# Altium schematic symbol library Transmitter.SchLib: 7 symbols
Pins are listed as number, name and electrical type; pins without a type are passive.

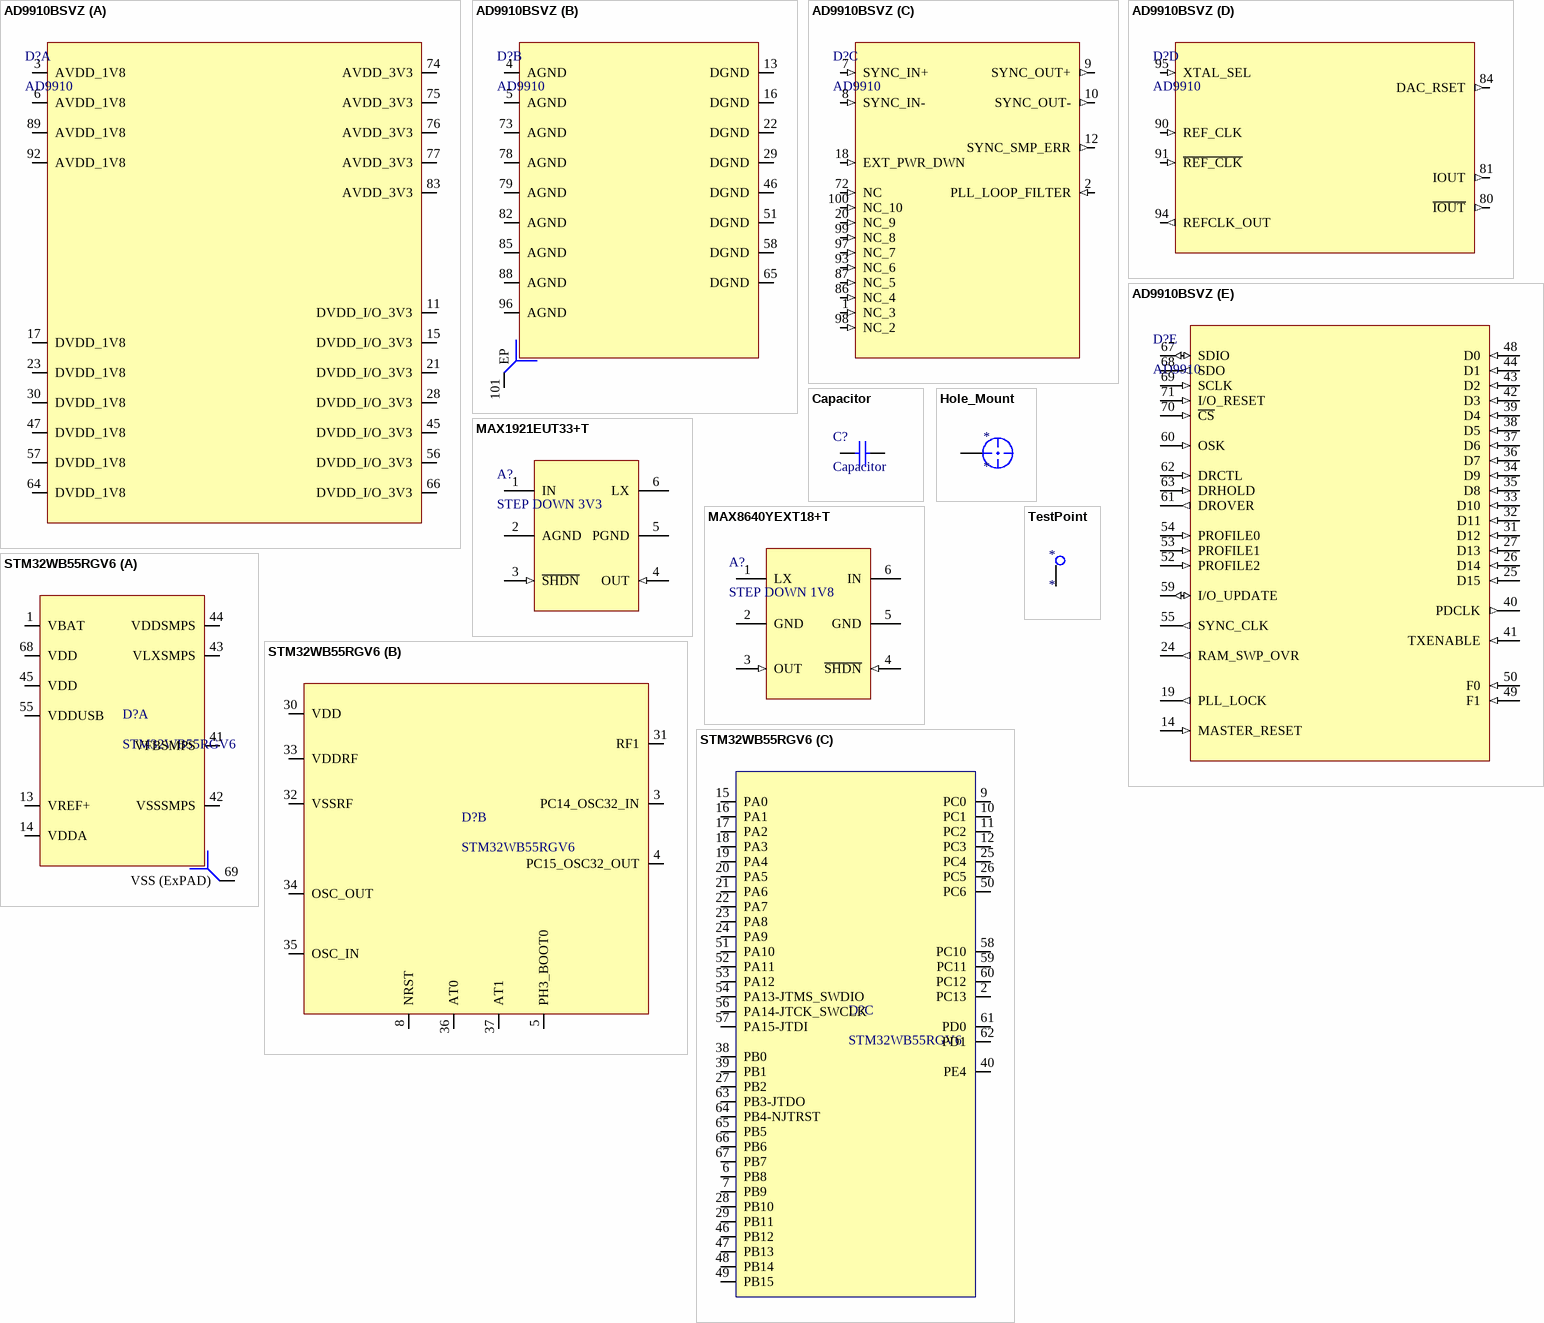
[diagram p0: symbols AD9910BSVZ to TestPoint]

## AD9910BSVZ
designator D?, comment AD9910
ANALOG DEVICES - AD9910BSVZ - Direct Digital Synthesizer, 1 GSPS. 14 Bit, 3.3 V,
footprint TSQFP50P1600X1600X105_HS-101N (TSQFP, 100-Leads, Body 14.00x14.00mm, Pitch 0.50mm, Thermal Pad 5.00x5.00mm, IPC Medium Density)
part A pins: 3 AVDD_1V8 (power), 6 AVDD_1V8 (power), 11 DVDD_I/O_3V3 (power), 15 DVDD_I/O_3V3 (power), 17 DVDD_1V8 (power), 21 DVDD_I/O_3V3 (power), 23 DVDD_1V8 (power), 28 DVDD_I/O_3V3 (power), 30 DVDD_1V8 (power), 45 DVDD_I/O_3V3 (power), 47 DVDD_1V8 (power), 56 DVDD_I/O_3V3 (power), 57 DVDD_1V8 (power), 64 DVDD_1V8 (power), 66 DVDD_I/O_3V3 (power), 74 AVDD_3V3 (power), 75 AVDD_3V3 (power), 76 AVDD_3V3 (power), 77 AVDD_3V3 (power), 83 AVDD_3V3 (power), 89 AVDD_1V8 (power), 92 AVDD_1V8 (power)
part B pins: 4 AGND (power), 5 AGND (power), 13 DGND (power), 16 DGND (power), 22 DGND (power), 29 DGND (power), 46 DGND (power), 51 DGND (power), 58 DGND (power), 65 DGND (power), 73 AGND (power), 78 AGND (power), 79 AGND (power), 82 AGND (power), 85 AGND (power), 88 AGND (power), 96 AGND (power), 101 EP (power)
part C pins: 1 NC_3 (in), 2 PLL_LOOP_FILTER (in), 7 SYNC_IN+ (in), 8 SYNC_IN- (in), 9 SYNC_OUT+ (out), 10 SYNC_OUT- (out), 12 SYNC_SMP_ERR (out), 18 EXT_PWR_DWN (in), 20 NC_9 (in), 72 NC (in), 86 NC_4 (in), 87 NC_5 (in), 93 NC_6 (in), 97 NC_7 (in), 98 NC_2 (in), 99 NC_8 (in), 100 NC_10 (in)
part D pins: 80 ~{IOUT} (out), 81 IOUT (out), 84 DAC_RSET (out), 90 REF_CLK (in), 91 ~{REF_CLK} (in), 94 REFCLK_OUT (out), 95 XTAL_SEL (in)
part E pins: 14 MASTER_RESET (in), 19 PLL_LOCK (out), 24 RAM_SWP_OVR (out), 25 D15 (in), 26 D14 (in), 27 D13 (in), 31 D12 (in), 32 D11 (in), 33 D10 (in), 34 D9 (in), 35 D8 (in), 36 D7 (in), 37 D6 (in), 38 D5 (in), 39 D4 (in), 40 PDCLK (out), 41 TXENABLE (in), 42 D3 (in), 43 D2 (in), 44 D1 (in), 48 D0 (in), 49 F1 (in), 50 F0 (in), 52 PROFILE2 (in), 53 PROFILE1 (in), 54 PROFILE0 (in), 55 SYNC_CLK (out), 59 I/O_UPDATE (io), 60 OSK (in), 61 DROVER (out), 62 DRCTL (in), 63 DRHOLD (in), 67 SDIO (io), 68 SDO (out), 69 SCLK (in), 70 ~{CS} (in), 71 I/O_RESET (in)

## Capacitor
designator C?
Value: *
footprint CAPC2012X135N
pins: 1, 2

## Hole_Mount
designator *
pins: 1 CONNECT TO (power)

## MAX1921EUT33+T
designator A?, comment STEP DOWN 3V3
IC REG BUCK 3.3V 400MA SOT23-6
pins: 1 IN (power), 2 AGND (power), 3 ~{SHDN} (in), 4 OUT (in), 5 PGND (power), 6 LX

## MAX8640YEXT18+T
designator A?, comment STEP DOWN 1V8
Switching Voltage Regulators Tiny 500mA, 4MHz/2MHz Synchronous Step-Down DC-DC Converters
pins: 1 LX, 2 GND (power), 3 OUT (in), 4 ~{SHDN} (in), 5 GND (power), 6 IN (power)

## STM32WB55RGV6
designator D?
MCU 32-Bit STM32WB55 ARM Cortex M4 RISC 1MB Flash 1.7V to 3.6V 68-Pin VFQFPN Tray
footprint Model Name (Footprint not found)
part A pins: 1 VBAT (power), 13 VREF+ (power), 14 VDDA (power), 41 VFBSMPS (power), 42 VSSSMPS (power), 43 VLXSMPS (power), 44 VDDSMPS (power), 45 VDD (power), 55 VDDUSB (power), 68 VDD (power), 69 VSS (ExPAD) (power)
part B pins: 3 PC14_OSC32_IN, 4 PC15_OSC32_OUT, 5 PH3_BOOT0, 8 NRST, 30 VDD (power), 31 RF1, 32 VSSRF (power), 33 VDDRF (power), 34 OSC_OUT, 35 OSC_IN, 36 AT0, 37 AT1
part C pins: 2 PC13, 6 PB8, 7 PB9, 9 PC0, 10 PC1, 11 PC2, 12 PC3, 15 PA0, 16 PA1, 17 PA2, 18 PA3, 19 PA4, 20 PA5, 21 PA6, 22 PA7, 23 PA8, 24 PA9, 25 PC4, 26 PC5, 27 PB2, 28 PB10, 29 PB11, 38 PB0, 39 PB1, 40 PE4, 46 PB12, 47 PB13, 48 PB14, 49 PB15, 50 PC6, 51 PA10, 52 PA11, 53 PA12, 54 PA13-JTMS_SWDIO, 56 PA14-JTCK_SWCLK, 57 PA15-JTDI, 58 PC10, 59 PC11, 60 PC12, 61 PD0, 62 PD1, 63 PB3-JTDO, 64 PB4-NJTRST, 65 PB5, 66 PB6, 67 PB7

## TestPoint
designator *
pins: 1